# Altium schematic symbol library STEF05PUR.SchLib: 2 symbols
Pins are listed as number, name and electrical type; pins without a type are passive.

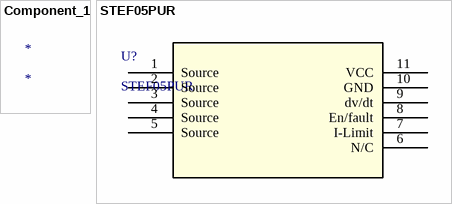
[diagram p0: symbols Component_1 to STEF05PUR]

## Component_1
designator *

## STEF05PUR
designator U?
No Description Available; Mfr_Name: STMicroelectronics; Copyright: Copyright (C) 2022 Ultra Librarian. All rights reserved.; Manufacturer_Part_Number: STEF05PUR; Digi-Key_Part_Number_1: 497-11265-2-ND; Digi-Key_Part_Number_2: 497-11265-1-ND; Digi-Key_Part_Number_3: 497-11265-6-ND; RefDes: RefDes; Type: DEV
footprint DFN_EF05PUR_STM
pins: 1 Source, 2 Source, 3 Source, 4 Source, 5 Source, 6 N/C, 7 I-Limit, 8 En/fault, 9 dv/dt, 10 GND, 11 VCC (power)